# Altium footprint library CNT_USB_C_H_WUERTH_632723300011.PcbLib: 1 footprints
Each footprint in its own frame and in the unit in brackets; x right, y up, seen from the top. Pads: shape width x height; smd on the part's side, far side on the other; paste and mask are expansions set on the pad; w line width, h text height; cw(c..) or ccw(c..) is an arc to the next point about the centre after c.
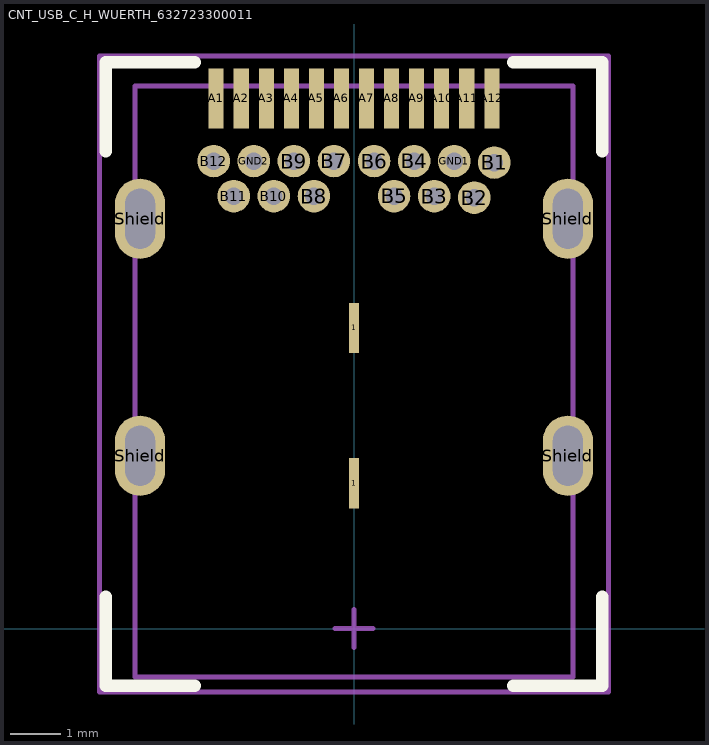
[diagram p0: the footprint, top view; thin cyan lines are the x and y axes]

## CNT_USB_C_H_WUERTH_632723300011 [mm]
pads (32):
  rrect1% 0.2x1 smd: 1(0,2.9) 1(0,6)
  rrect1% 0.3x1.2 smd paste+0 mask+0.05: A1(-2.75,10.58) A2(-2.25,10.58) A3(-1.75,10.58) A4(-1.25,10.58) A5(-0.75,10.58) A7(0.25,10.58) A8(0.75,10.58) A9(1.25,10.58) A10(1.75,10.58) A11(2.25,10.58) A12(2.75,10.58)
  rrect1% 0.3x1.2 smd mask+0.05: A6(-0.25,10.58)
  round 0.65 hole 0.35 paste-2539.97 mask+0.05: B1(2.8,9.3) B2(2.4,8.6) B4(1.2,9.33) B5(0.8,8.63) B6(0.4,9.33) B7(-0.4,9.33) B8(-0.8,8.63) GND1(2,9.33) GND2(-2,9.33)
  round 0.65 hole 0.35 mask+0.05: B3(1.6,8.63) B9(-1.2,9.33) B10(-1.6,8.63) B11(-2.4,8.63) B12(-2.8,9.33)
  oval 1x1.6 hole 0.6 slot 1.2 at 90 deg: Shield(-4.27,3.45) Shield(-4.27,8.18) Shield(4.27,3.45) Shield(4.27,8.18)
Top Overlay:
  lines w0.25: -4.953,0.635 -4.953,-1.143 -3.175,-1.143 ; -4.953,9.525 -4.953,11.303 -3.175,11.303 ; 3.175,-1.143 4.953,-1.143 4.953,0.635 ; 3.175,11.303 4.953,11.303 4.953,9.525
Mechanical 1:
  lines w0.1: -4.37,-0.964 4.37,-0.964 4.37,10.83 -4.37,10.83 -4.37,-0.964
  text ".Designator" at 0.127,4.812 h0.6
Mechanical 15:
  lines w0.1: -0.381,0 0.381,0 ; 0,-0.381 0,0.381 ; -5.08,-1.27 -5.08,11.43 5.08,11.43 5.08,-1.27 -5.08,-1.27
3D body "STP_632723300011_rev1.stp": height 3.03, standoff -1.83, extent -4.37,-0.964 4.37,10.83